# Altium footprint library USB_SER_v11.PcbLib: 13 footprints
Each footprint in its own frame and in the unit in brackets; x right, y up, seen from the top. Pads: shape width x height; smd on the part's side, far side on the other; paste and mask are expansions set on the pad; w line width, h text height; cw(c..) or ccw(c..) is an arc to the next point about the centre after c.
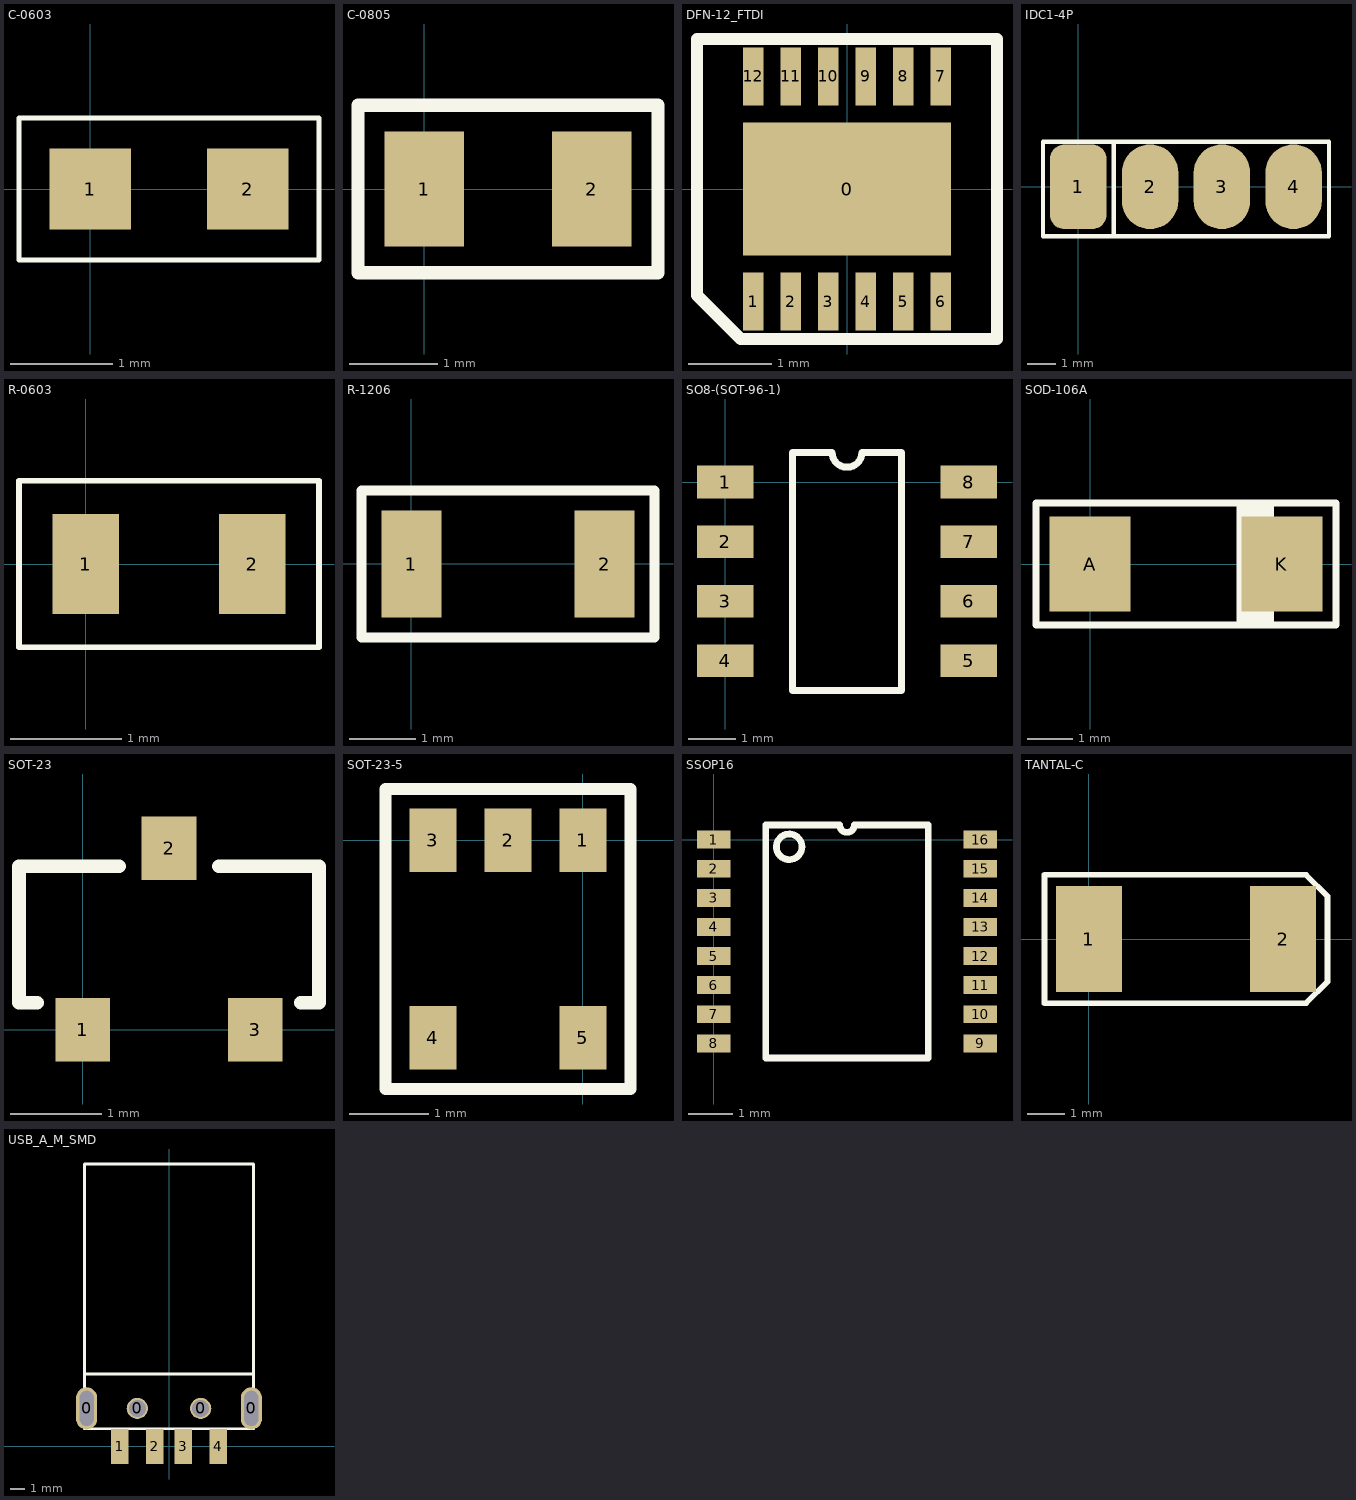
[diagram p0: the footprints below, top view; thin cyan lines are the x and y axes]

## C-0603 [mm]
pads (2):
  rect 0.8x0.8 smd: 1(0,0) 2(1.55,0)
Top Overlay:
  lines w0.05: -0.7,-0.7 2.25,-0.7 2.25,0.7 -0.7,0.7 -0.7,0 -0.7,-0.7

## C-0805 [mm]
pads (2):
  rect 0.9x1.3 smd: 1(0,0) 2(1.9,0)
Top Overlay:
  lines w0.15: -0.75,-0.95 2.65,-0.95 2.65,0.95 -0.75,0.95 -0.75,0 -0.75,-0.95

## DFN-12_FTDI [mm]
pads (13):
  rect 2.5x1.6 smd mask+0.08: 0(0,0)
  rect 0.25x0.7 smd mask+0.08: 1(-1.125,-1.35) 2(-0.675,-1.35) 3(-0.225,-1.35) 4(0.225,-1.35) 5(0.675,-1.35) 6(1.125,-1.35) 7(1.125,1.35) 8(0.675,1.35) 9(0.225,1.35) 10(-0.225,1.35) 11(-0.675,1.35) 12(-1.125,1.35)
Top Overlay:
  lines w0.15: -1.8,-1.275 -1.8,1.8 1.8,1.8 1.8,-1.8 -1.275,-1.8 -1.8,-1.275

## IDC1-4P [mm]
pads (4):
  rrect50% 2x3 smd: 1(0,0)
  oval 2x3 smd: 2(2.54,0) 3(5.08,0) 4(7.62,0)
Top Overlay:
  lines w0.15: 1.25,-1.75 1.25,1.5 ; -1.25,-1.748 -1.25,1.595 8.87,1.595 8.87,-1.748 -1.25,-1.748

## R-0603 [mm]
pads (2):
  rect 0.6x0.9 smd: 1(0,0) 2(1.5,0)
Top Overlay:
  lines w0.05: -0.6,-0.75 2.1,-0.75 2.1,0.75 -0.6,0.75 -0.6,0 -0.6,-0.75

## R-1206 [mm]
pads (2):
  rect 0.9x1.6 smd: 1(0,0) 2(2.9,0)
Top Overlay:
  lines w0.15: -0.75,-1.1 3.65,-1.1 3.65,1.1 -0.75,1.1 -0.75,0 -0.75,-1.1

## SO8-(SOT-96-1) [mm]
pads (8):
  rect 1.2x0.7 smd: 1(0,0) 2(0,-1.27) 3(0,-2.54) 4(0,-3.81) 5(5.2,-3.81) 6(5.2,-2.54) 7(5.2,-1.27) 8(5.2,0)
Top Overlay:
  lines w0.15: 1.435,-4.445 3.765,-4.445 3.765,0.635 2.917,0.635 cw(c2.6,0.635) 2.282,0.635 1.435,0.635 1.435,-4.445

## SOD-106A [mm]
pads (2):
  rect 1.8x2.1 smd: A(0,0) K(4.25,0)
Top Overlay:
  rectangle: 3.25,-1.35 4.075,1.35
  lines w0.15: -1.2,-1.35 5.45,-1.35 5.45,1.35 -1.2,1.35 -1.2,0 -1.2,-1.35

## SOT-23 [mm]
pads (3):
  rect 0.6x0.7 smd: 1(0,0) 2(0.95,2) 3(1.9,0)
Top Overlay:
  lines w0.15: -0.5,0.3 -0.7,0.3 -0.7,1.8 0.4,1.8 ; 1.5,1.8 2.6,1.8 2.6,0.3 2.4,0.3

## SOT-23-5 [mm]
pads (5):
  rect 0.6x0.8 smd: 1(0,0) 2(-0.95,0) 3(-1.9,0) 4(-1.9,-2.5) 5(0,-2.5)
Top Overlay:
  lines w0.15: -2.5,-3.15 -2.5,0.65 0.6,0.65 0.6,-3.15 -2.5,-3.15

## SSOP16 [mm]
pads (16):
  rect 0.75x0.4 smd: 1(0,0) 2(0,-0.65) 3(0,-1.3) 4(0,-1.95) 5(0,-2.6) 6(0,-3.25) 7(0,-3.9) 8(0,-4.55) 9(5.95,-4.55) 10(5.95,-3.9) 11(5.95,-3.25) 12(5.95,-2.6) 13(5.95,-1.95) 14(5.95,-1.3) 15(5.95,-0.65) 16(5.95,0)
Top Overlay:
  circle w0.15: c1.684,-0.16 r0.286
  lines w0.15: 1.16,-4.875 1.16,0.325 2.813,0.325 ccw(c2.975,0.325) 3.137,0.325 4.79,0.325 4.79,-4.875 1.16,-4.875

## TANTAL-C [mm]
pads (2):
  rect 1.75x2.8 smd: 1(0,0) 2(5.15,0)
Top Overlay:
  lines w0.15: -1.175,-1.7 -1.175,0 -1.175,1.7 5.758,1.7 6.325,1.133 6.325,-1.133 5.758,-1.7 -1.175,-1.7

## USB_A_M_SMD [mm] "usb male smd mount"
pads (8):
  oval 1.5x3 hole 1 slot 2.5 at 90 deg: 0(-5.85,2.7) 0(5.85,2.7)
  round 1.5 hole 1.2 unplated mask+0: 0(-2.25,2.7) 0(2.25,2.7)
  rect 1.25x2.5 smd: 1(-3.5,0) 2(-1,0) 3(1,0) 4(3.5,0)
Top Overlay:
  lines w0.2: -6,5.15 6,5.15 ; -6,1.25 6,1.25 6,20.05 -6,20.05 -6,1.25